# Altium schematic symbol library MCU.SchLib: 5 symbols
Pins are listed as number, name and electrical type; pins without a type are passive.

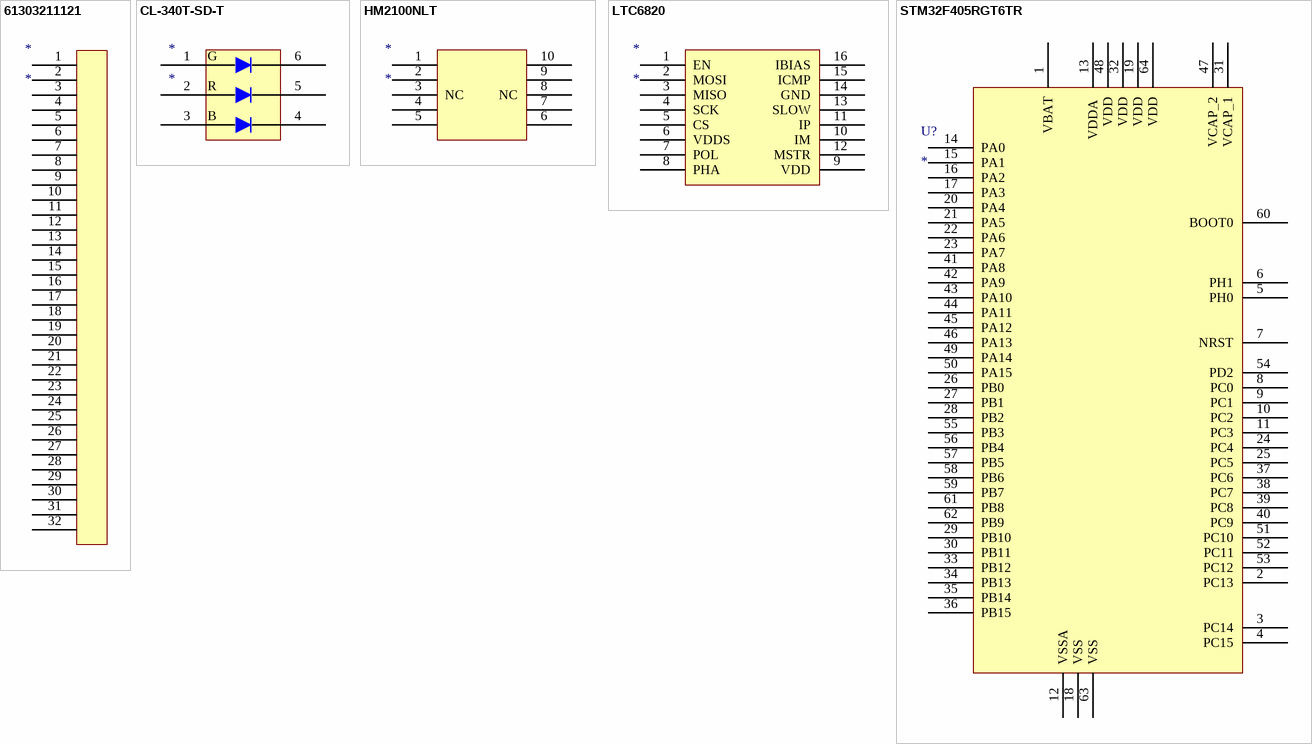
[diagram p0: symbols 61303211121 to STM32F405RGT6TR]

## 61303211121
designator *
footprint 61303211121
pins: 1, 2, 3, 4, 5, 6, 7, 8, 9, 10, 11, 12, 13, 14, 15, 16, 17, 18, 19, 20, 21, 22, 23, 24, 25, 26, 27, 28, 29, 30, 31, 32

## CL-340T-SD-T
designator *
footprint CL-340T-SD-T
pins: 1, 2, 3, 4, 5, 6
text: G; R; B

## HM2100NLT
designator *
footprint HM2100NLT
pins: 1, 2, 3 NC, 4, 5, 6, 7, 8 NC, 9, 10

## LTC6820
designator *
footprint LTC6820
pins: 1 EN, 2 MOSI, 3 MISO, 4 SCK, 5 CS, 6 VDDS, 7 POL, 8 PHA, 9 VDD, 10 IM, 11 IP, 12 MSTR, 13 SLOW, 14 GND, 15 ICMP, 16 IBIAS

## STM32F405RGT6TR
designator U?
footprint STM32F405RGT6TR
pins: 1 VBAT (power), 2 PC13, 3 PC14, 4 PC15, 5 PH0, 6 PH1, 7 NRST, 8 PC0, 9 PC1, 10 PC2, 11 PC3, 12 VSSA (power), 13 VDDA  (power), 14 PA0, 15 PA1, 16 PA2, 17 PA3, 18 VSS (power), 19 VDD (power), 20 PA4, 21 PA5, 22 PA6, 23 PA7, 24 PC4, 25 PC5, 26 PB0, 27 PB1, 28 PB2, 29 PB10, 30 PB11, 31 VCAP_1 (power), 32 VDD (power), 33 PB12, 34 PB13, 35 PB14, 36 PB15, 37 PC6, 38 PC7, 39 PC8, 40 PC9, 41 PA8, 42 PA9, 43 PA10, 44 PA11, 45 PA12, 46 PA13, 47 VCAP_2 (power), 48 VDD (power), 49 PA14, 50 PA15, 51 PC10, 52 PC11, 53 PC12, 54 PD2, 55 PB3, 56 PB4, 57 PB5, 58 PB6, 59 PB7, 60 BOOT0, 61 PB8, 62 PB9, 63 VSS (power), 64 VDD (power)